# EAGLE library part TXS0104EPWR (library SamacSys_Parts)
TXS0104EPWR, Voltage Level Translator, Open Drain 1.65 3.6 V, 2.3 5.5 V 14-Pin TSSOP Source: Datasheet <http://www.ti.com/lit/ds/symlink/txs0104e.pdf>
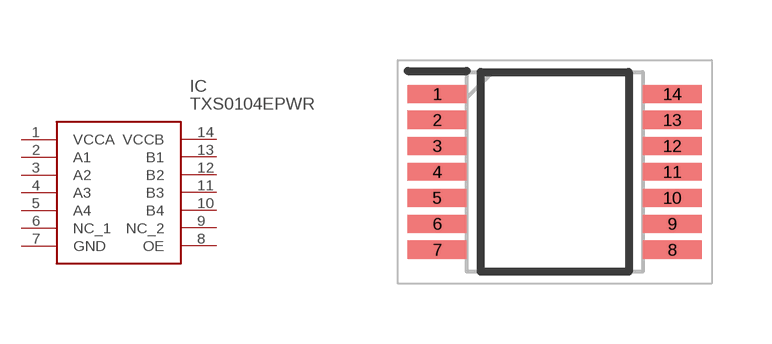
[diagram p222: symbol with the pads of SOP65P640X120-14N; footprint SOP65P640X120-14N]

Designator prefix IC

## TXS0104EPWR (DESCRIPTION: TXS0104EPWR, Voltage Level Translator, Open Drain 1.65 3.6 V, 2.3 5.5 V 14-Pin TSSOP; HEIGHT: 1.2mm; MANUFACTURER_NAME: Texas Instruments; MANUFACTURER_PART_NUMBER: TXS0104EPWR; MOUSER_PART_NUMBER: 595-TXS0104EPWR; MOUSER_PRICE-STOCK: https://www.mouser.co.uk/ProductDetail/Texas-Instruments/TXS0104EPWR?qs=7kv20MEVUlglsv2MH6ZndA%3D%3D)  [SOP65P640X120-14N]
1  VCCA
2  A1
3  A2
4  A3
5  A4
6  NC_1
7  GND
8  OE
9  NC_2
10  B4
11  B3
12  B2
13  B1
14  VCCB

## Footprint SOP65P640X120-14N (pad centres in mm)
14-Pin TSSOP-ren1
smd 1.475 x 0.45: 1 -2.938,1.95; 2 -2.938,1.3; 3 -2.938,0.65; 4 -2.938,0; 5 -2.938,-0.65; 6 -2.938,-1.3; 7 -2.938,-1.95; 8 2.938,-1.95; 9 2.938,-1.3; 10 2.938,-0.65; 11 2.938,0; 12 2.938,0.65; 13 2.938,1.3; 14 2.938,1.95